# Altium footprint library CON7_2.5mm_Blade_TSB0-01275-00T3.PcbLib: 1 footprints
Each footprint in its own frame and in the unit in brackets; x right, y up, seen from the top. Pads: shape width x height; smd on the part's side, far side on the other; paste and mask are expansions set on the pad; w line width, h text height; cw(c..) or ccw(c..) is an arc to the next point about the centre after c.
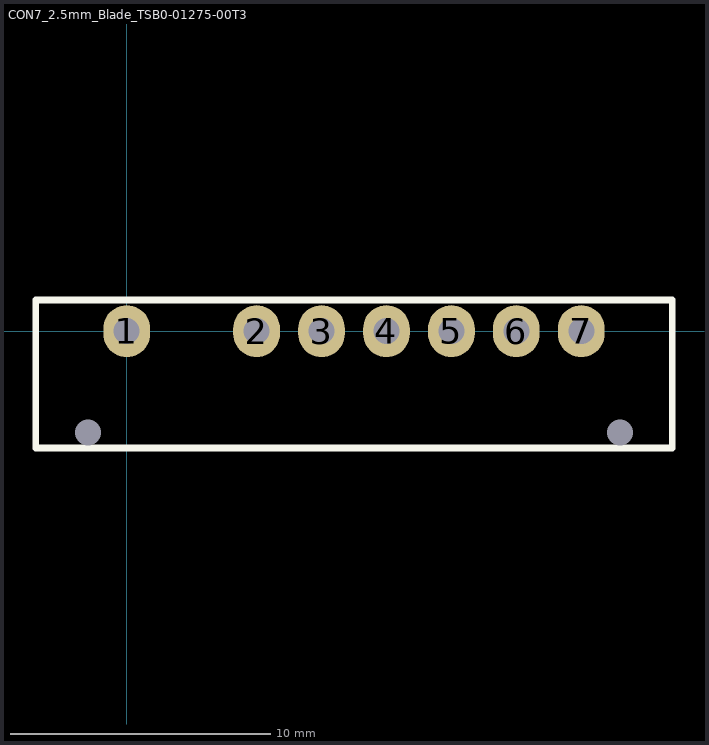
[diagram p0: the footprint, top view; thin cyan lines are the x and y axes]

## CON7_2.5mm_Blade_TSB0-01275-00T3 [mm] "TSB0-01275-00T3"
pads (9):
  oval 1.8x2 hole 1: 1(0,0) 2(5,0) 3(7.5,0) 4(10,0) 5(12.5,0) 6(15,0) 7(17.5,0)
  round 0 hole 1 unplated: MP(-1.5,-3.9) MP(19,-3.9)
Top Layer:
  lines w0.25: -0.02,-0.02 0,0 ; 5,0 5.05,0.05 ; 12.5,0 12.6,0.1
Top Overlay:
  lines w0.254: -3.5,-4.5 21,-4.5 21,1.2 -3.5,1.2 -3.5,-4.5
Mechanical 1:
  circle w0.013: c0,0 r0.5
  circle w0.013: c7.5,0 r0.5
  circle w0.013: c12.5,0 r0.5
  circle w0.013: c17.5,0 r0.5
  circle w0.013: c15,0 r0.5
  circle w0.013: c10,0 r0.5
  circle w0.013: c5,0 r0.5
  circle w0.013: c19,-3.9 r0.45
  circle w0.013: c-1.5,-3.9 r0.45
3D body "tsb0-01275-00xx-20161027.stp": height 6.5, standoff -2.3, extent -3.468,-4.38 20.982,1.14